# Altium footprint library T47x27x15.PcbLib: 1 footprints
Each footprint in its own frame and in the unit in brackets; x right, y up, seen from the top. Pads: shape width x height; smd on the part's side, far side on the other; paste and mask are expansions set on the pad; w line width, h text height; cw(c..) or ccw(c..) is an arc to the next point about the centre after c.
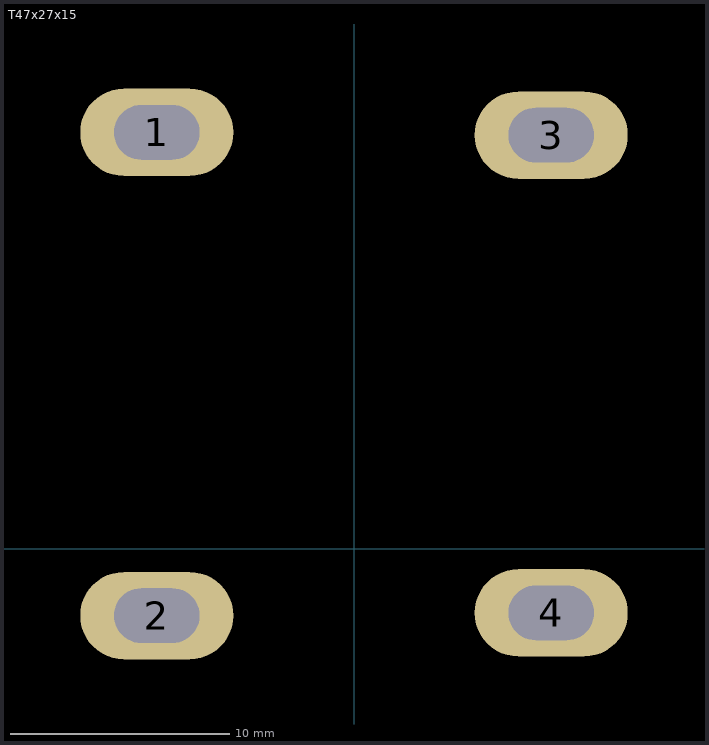
[diagram p0: the footprint, top view; thin cyan lines are the x and y axes]

## T47x27x15 [mm] "T47x27x15"
pads (4):
  oval 7x4 hole 2.5 slot 3.9 at 0 deg: 1(-9.017,19.05) 2(-9.017,-3.048) 3(9.017,18.923) 4(9.017,-2.921)
3D body "Дроссель фильтра (2).STEP": height 50.02, standoff -3, extent -27.5,-7.069 27.314,22.069